# Altium schematic symbol library BSS84.SchLib: 1 symbol
Pins are listed as number, name and electrical type; pins without a type are passive.

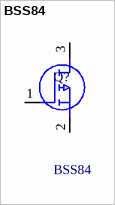
[diagram p0: symbol BSS84]

## BSS84
designator Q?
-0.13 A, -50 V RDS(ON) = 10  @ VGS = -5 V; High-Density Cell Design for Low RDS(ON); Voltage-controlled P-channel small signal switch; High Saturation Current.; Manufacturer_Name: onsemi; Geometry.Height: 1.2mm; Mouser Part Number: 512-BSS84; Mouser Price/Stock: https://www.mouser.co.uk/ProductDetail/onsemi-Fairchild/BSS84?qs=FOlmdCx%252BAA0e83h5MpSc0g%3D%3D; Manufacturer_Part_Number: BSS84; Datasheet Link: https://www.onsemi.com/pub/Collateral/BSS84-D.PDF
footprint SOT95P240X120-3N
pins: 1 G, 2 S, 3 D